# EAGLE library part G65SC22P (library 65XXX)
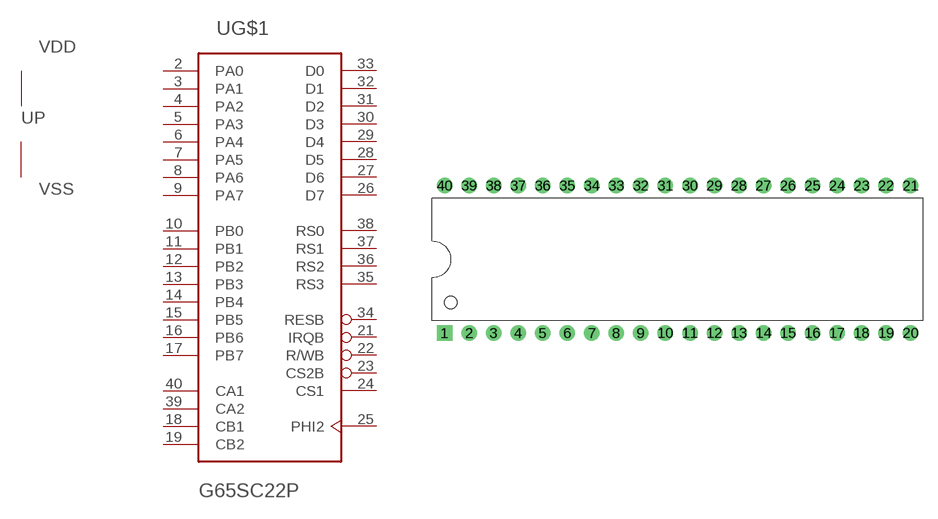
[diagram p2: symbol with the pads of DIP-40; footprint DIP-40]

Designator prefix U; gates G$1=65C22 P=P-CMOS

## G65SC22P  [DIP-40]
1  P:VSS  pwr
2  G$1:PA0
3  G$1:PA1
4  G$1:PA2
5  G$1:PA3
6  G$1:PA4
7  G$1:PA5
8  G$1:PA6
9  G$1:PA7
10  G$1:PB0
11  G$1:PB1
12  G$1:PB2
13  G$1:PB3
14  G$1:PB4
15  G$1:PB5
16  G$1:PB6
17  G$1:PB7
18  G$1:CB1
19  G$1:CB2
20  P:VDD  pwr
21  G$1:IRQB  out
22  G$1:R/WB  in
23  G$1:CS2B  in
24  G$1:CS1  in
25  G$1:PHI2  in
26  G$1:D7
27  G$1:D6
28  G$1:D5
29  G$1:D4
30  G$1:D3
31  G$1:D2
32  G$1:D1
33  G$1:D0
34  G$1:RESB  in
35  G$1:RS3  in
36  G$1:RS2  in
37  G$1:RS1  in
38  G$1:RS0  in
39  G$1:CA2
40  G$1:CA1

## Footprint DIP-40 (pad centres in mm)
drill 0.889 pad 1.6 square: 1 -22.86,-7.62
drill 0.889 pad 1.6: 2 -20.32,-7.62; 3 -17.78,-7.62; 4 -15.24,-7.62; 5 -12.7,-7.62; 6 -10.16,-7.62; 7 -7.62,-7.62; 8 -5.08,-7.62; 9 -2.54,-7.62; 10 0,-7.62; 11 2.54,-7.62; 12 5.08,-7.62; 13 7.62,-7.62; 14 10.16,-7.62; 15 12.7,-7.62; 16 15.24,-7.62; 17 17.78,-7.62; 18 20.32,-7.62; 19 22.86,-7.62; 20 25.4,-7.62; 21 25.4,7.62; 22 22.86,7.62; 23 20.32,7.62; 24 17.78,7.62; 25 15.24,7.62; 26 12.7,7.62; 27 10.16,7.62; 28 7.62,7.62; 29 5.08,7.62; 30 2.54,7.62; 31 0,7.62; 32 -2.54,7.62; 33 -5.08,7.62; 34 -7.62,7.62; 35 -10.16,7.62; 36 -12.7,7.62; 37 -15.24,7.62; 38 -17.78,7.62; 39 -20.32,7.62; 40 -22.86,7.62